# Altium integrated library NSC Interface.IntLib: 481 symbols (part 5 of 16)
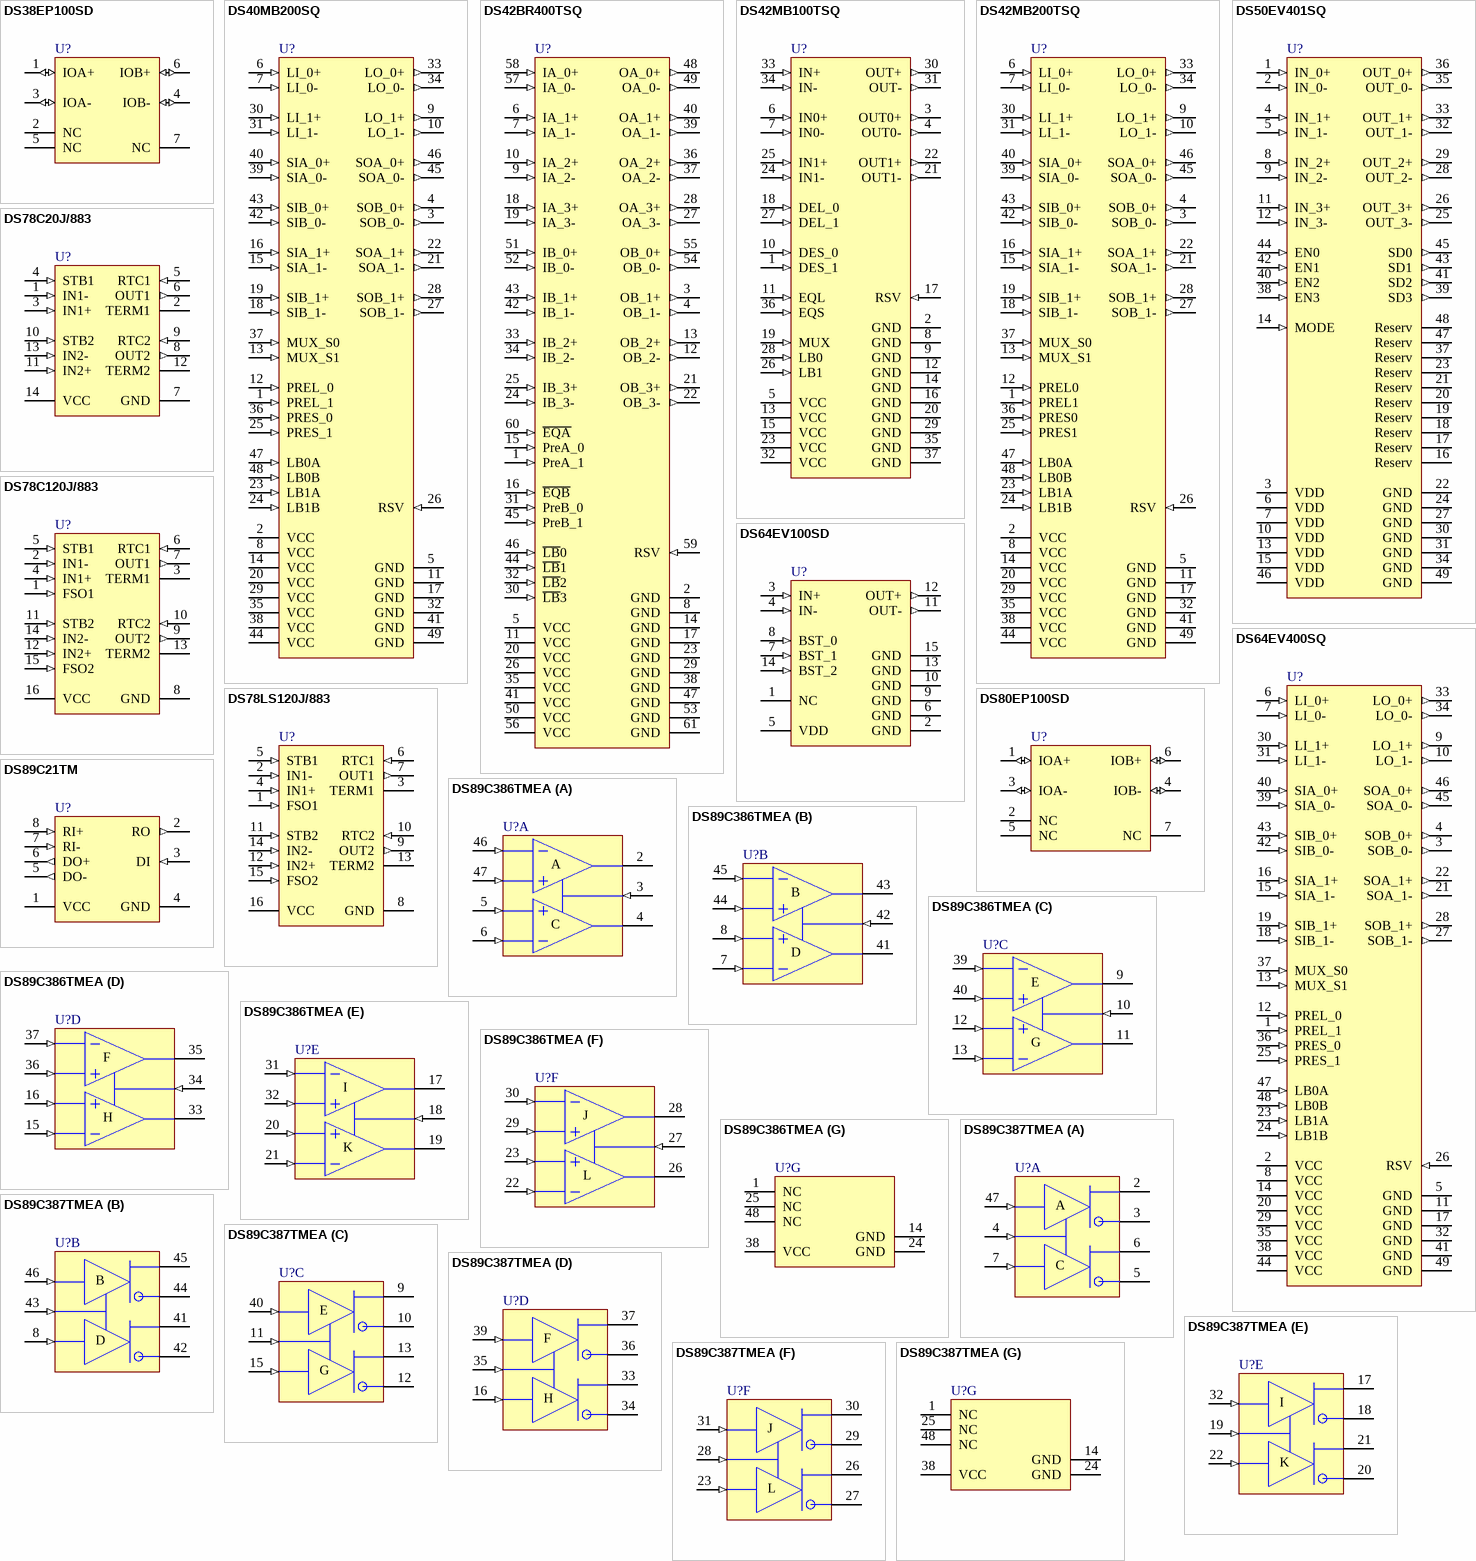
[diagram p44: symbols DS38EP100SD to DS89C387TMEA]

## DS89C21TM
designator U?
Differential CMOS Line Driver and Receiver Pair; PartNumber: DS89C21TM; Manufacturer: National Semiconductor; CompType: Interface IC; PackageTopMarking: NSZXTT*DS89C*21TM; Published: 4-Dec-2008; DatasheetVersion: Jun-1998; PackageVersion: revL, Sep-2006; PackageReference: M08A; Publisher: Altium Limited; PackageDescription: SOIC Narrow, 4.9 x 3.9 x 1.45mm, 8 Lead, 1.27mm Pitch; RoHS: O; PinCount: 8; DigiKeyPartNumber: DS89C21TM-ND; Code_JEDEC: MS-012-AA; Code_IPC: SOIC127P600-8; ComponentLink1Description: DS89C21 Datasheet; ComponentLink1URL: http://www.national.com/ds/DS/DS89C21.pdf; ComponentLink2Description: DS89C21 Web Page; ComponentLink2URL: http://www.national.com/pf/DS/DS89C21.html; ComponentLink3Description: M08A Package Page; ComponentLink3URL: http://www.national.com/packaging/folders/m08a.html
footprint M08A_N (SOIC, 8-Leads, Body 4.9x3.9mm, Pitch 1.27mm, IPC Medium Density)
footprint M08A_L (SOIC, 8-Leads, Body 4.9x3.9mm, Pitch 1.27mm, IPC High Density)
footprint M08A_M (SOIC, 8-Leads, Body 4.9x3.9mm, Pitch 1.27mm, IPC Low Density)
pins: 1 VCC (power), 2 RO (out), 3 DI (in), 4 GND (power), 5 DO- (out), 6 DO+ (out), 7 RI- (in), 8 RI+ (in)

## DS89C386TMEA
designator U?
Twelve Channel CMOS Differential Line Receiver; PartNumber: DS89C386TMEA; Manufacturer: National Semiconductor; CompType: Interface IC; PackageTopMarking: NSUZXYTT*DS89C386T*MEA; Published: 4-Dec-2008; DatasheetVersion: Oct-2001; PackageVersion: revF, Sep-2005; PackageReference: MS48A; Publisher: Altium Limited; PackageDescription: SSOP, .295 x .625 x .09in Body, 48 Lead, .025in Pitch; RoHS: O; PinCount: 48; DigiKeyPartNumber: DS89C386TMEA-ND; Code_IPC: SOP635P1035-48; ComponentLink1Description: DS89C386 Datasheet; ComponentLink1URL: http://www.national.com/ds/DS/DS89C386.pdf; ComponentLink2Description: DS89C386 Web Page; ComponentLink2URL: http://www.national.com/pf/DS/DS89C386.html; ComponentLink3Description: MS48A Package Page; ComponentLink3URL: http://www.national.com/packaging/folders/ms48a.html
footprint MS48A_N (SOP, 48-Leads, Body 15.9x7.5mm, Pitch 0.635mm, IPC Medium Density)
footprint MS48A_L (SOP, 48-Leads, Body 15.9x7.5mm, Pitch 0.635mm, IPC High Density)
footprint MS48A_M (SOP, 48-Leads, Body 15.9x7.5mm, Pitch 0.635mm, IPC Low Density)
part A pins: 2 RO (hiz), 3 EN (in), 4 RO (hiz), 5 RI+ (in), 6 RI- (in), 46 RI- (in), 47 RI+ (in)
part B pins: 7 RI- (in), 8 RI+ (in), 41 RO (hiz), 42 EN (in), 43 RO (hiz), 44 RI+ (in), 45 RI- (in)
part C pins: 9 RO (hiz), 10 EN (in), 11 RO (hiz), 12 RI+ (in), 13 RI- (in), 39 RI- (in), 40 RI+ (in)
part D pins: 15 RI- (in), 16 RI+ (in), 33 RO (hiz), 34 EN (in), 35 RO (hiz), 36 RI+ (in), 37 RI- (in)
part E pins: 17 RO (hiz), 18 EN (in), 19 RO (hiz), 20 RI+ (in), 21 RI- (in), 31 RI- (in), 32 RI+ (in)
part F pins: 22 RI- (in), 23 RI+ (in), 26 RO (hiz), 27 EN (in), 28 RO (hiz), 29 RI+ (in), 30 RI- (in)
part G pins: 1 NC, 14 GND (power), 24 GND (power), 25 NC, 38 VCC (power), 48 NC
part A text: A; C
part B text: B; D
part C text: E; G
part D text: F; H
part E text: I; K
part F text: J; L

## DS89C387TMEA
designator U?
Twelve Channel CMOS Differential Line Driver; PartNumber: DS89C387TMEA; Manufacturer: National Semiconductor; CompType: Interface IC; PackageTopMarking: NSUZXYTT*DS89C387T*MEA; Published: 4-Dec-2008; DatasheetVersion: Dec-2006; PackageVersion: revF, Sep-2005; PackageReference: MS48A; Publisher: Altium Limited; PackageDescription: SSOP, .295 x .625 x .09in Body, 48 Lead, .025in Pitch; RoHS: O; PinCount: 48; DigiKeyPartNumber: DS89C387TMEA-ND; Code_IPC: SOP635P1035-48; ComponentLink1Description: DS89C387 Datasheet; ComponentLink1URL: http://www.national.com/ds/DS/DS89C387.pdf; ComponentLink2Description: DS89C387 Web Page; ComponentLink2URL: http://www.national.com/pf/DS/DS89C387.html; ComponentLink3Description: MS48A Package Page; ComponentLink3URL: http://www.national.com/packaging/folders/ms48a.html
footprint MS48A_N (SOP, 48-Leads, Body 15.9x7.5mm, Pitch 0.635mm, IPC Medium Density)
footprint MS48A_L (SOP, 48-Leads, Body 15.9x7.5mm, Pitch 0.635mm, IPC High Density)
footprint MS48A_M (SOP, 48-Leads, Body 15.9x7.5mm, Pitch 0.635mm, IPC Low Density)
part A pins: 2 DO (hiz), 3 ~{DO} (hiz), 4 EN (in), 5 ~{DO} (hiz), 6 DO (hiz), 7 DI (in), 47 DI (in)
part B pins: 8 DI (in), 41 DO (hiz), 42 ~{DO} (hiz), 43 EN (in), 44 ~{DO} (hiz), 45 DO (hiz), 46 DI (in)
part C pins: 9 DO (hiz), 10 ~{DO} (hiz), 11 EN (in), 12 ~{DO} (hiz), 13 DO (hiz), 15 DI (in), 40 DI (in)
part D pins: 16 DI (in), 33 DO (hiz), 34 ~{DO} (hiz), 35 EN (in), 36 ~{DO} (hiz), 37 DO (hiz), 39 DI (in)
part E pins: 17 DO (hiz), 18 ~{DO} (hiz), 19 EN (in), 20 ~{DO} (hiz), 21 DO (hiz), 22 DI (in), 32 DI (in)
part F pins: 23 DI (in), 26 DO (hiz), 27 ~{DO} (hiz), 28 EN (in), 29 ~{DO} (hiz), 30 DO (hiz), 31 DI (in)
part G pins: 1 NC, 14 GND (power), 24 GND (power), 25 NC, 38 VCC (power), 48 NC
part A text: A; C
part B text: B; D
part C text: E; G
part D text: F; H
part E text: I; K
part F text: J; L

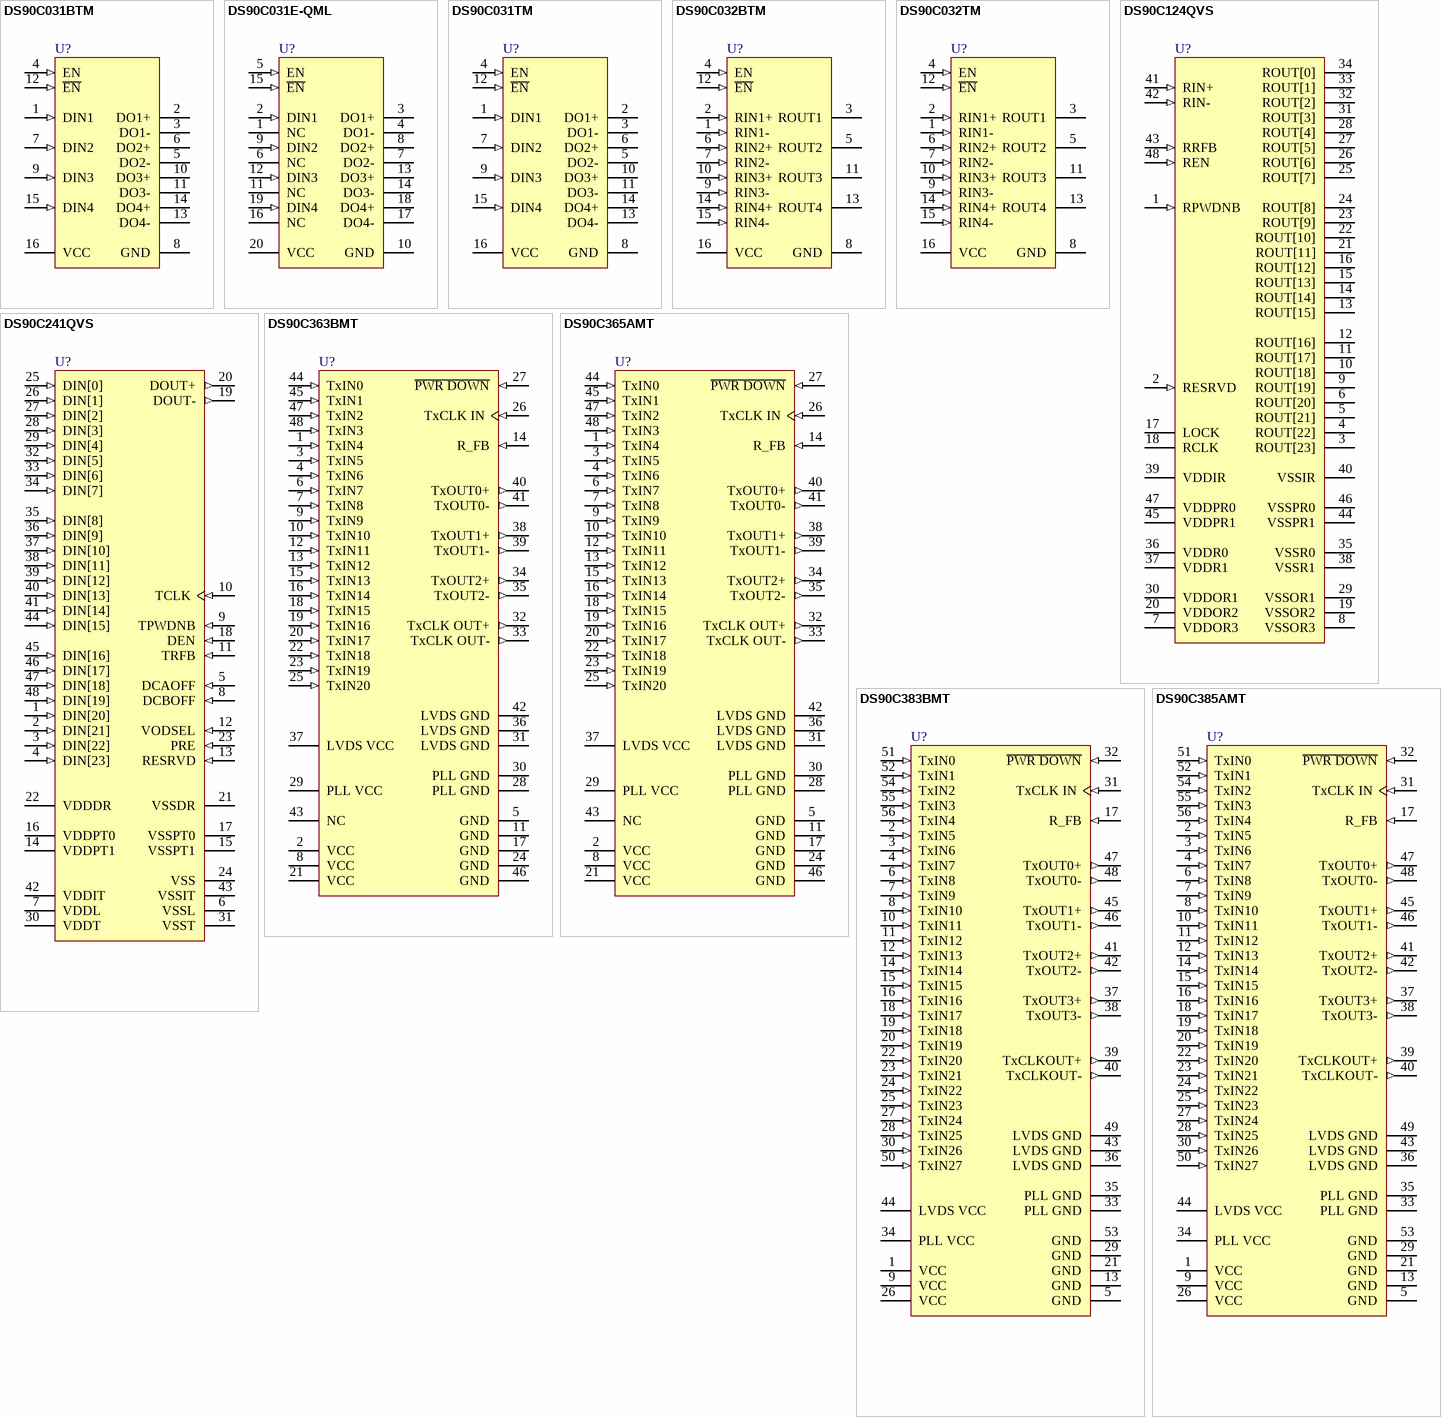
[diagram p11: symbols DS90C031BTM to DS90C385AMT]

## DS90C031BTM
designator U?
LVDS Quad CMOS Differential Line Driver; PartNumber: DS90C031BTM; Manufacturer: National Semiconductor; CompType: Interface IC; PackageTopMarking: NSUZXYTT*DS90C031BTM; Published: 4-Dec-2008; DatasheetVersion: Oct-2001; PackageVersion: revJ, Aug-1995; PackageReference: M16A; Publisher: Altium Limited; PackageDescription: Molded Package, S.O., .150in Wide, 16 Lead; RoHS: O; PinCount: 16; DigiKeyPartNumber: DS90C031BTM-ND; Code_JEDEC: MS-012-AC; Code_IPC: SOIC127P600-16; ComponentLink1Description: DS90C031B Datasheet; ComponentLink1URL: http://www.national.com/ds/DS/DS90C031B.pdf; ComponentLink2Description: DS90C031B Web Page; ComponentLink2URL: http://www.national.com/pf/DS/DS90C031B.html; ComponentLink3Description: M16A Package Page; ComponentLink3URL: http://www.national.com/packaging/folders/m16a.html
footprint M16A_N (SOIC, 16-Leads, Body 9.9x3.9mm, Pitch 1.27mm, IPC Medium Density)
footprint M16A_L (SOIC, 16-Leads, Body 9.9x3.9mm, Pitch 1.27mm, IPC High Density)
footprint M16A_M (SOIC, 16-Leads, Body 9.9x3.9mm, Pitch 1.27mm, IPC Low Density)
pins: 1 DIN1 (in), 2 DO1+ (hiz), 3 DO1- (hiz), 4 EN (in), 5 DO2- (hiz), 6 DO2+ (hiz), 7 DIN2 (in), 8 GND (power), 9 DIN3 (in), 10 DO3+ (hiz), 11 DO3- (hiz), 12 ~{EN} (in), 13 DO4- (hiz), 14 DO4+ (hiz), 15 DIN4 (in), 16 VCC (power)

## DS90C031E-QML
designator U?
LVDS Quad CMOS Differential Line Driver; PartNumber: DS90C031E-QML; Manufacturer: National Semiconductor; CompType: Interface IC; PackageTopMarking: NSZSSXXYYA*5962-95833*01Q2A*DS90C031E*-QML Q; Published: 4-Dec-2008; DatasheetVersion: Jun-1998; PackageVersion: revF, May-2004; PackageReference: E20A; Publisher: Altium Limited; PackageDescription: Leadless Chip Carrier, Type C, 20 Terminal; RoHS: N; PinCount: 20; Code_JEDEC: MS-004-CB; ComponentLink1Description: DS90C031 Datasheet; ComponentLink1URL: http://www.national.com/ds/DS/DS90C031.pdf; ComponentLink2Description: DS90C031 Web Page; ComponentLink2URL: http://www.national.com/pf/DS/DS90C031.html; ComponentLink3Description: E20A Package Page; ComponentLink3URL: http://www.national.com/packaging/folders/e20a.html
footprint E20A_N (Leadless Chip Carrier, 20-Leads, Body 8.9x8.9mm, Pitch 1.27mm, IPC Medium Density)
footprint E20A_L (Leadless Chip Carrier, 20-Leads, Body 8.9x8.9mm, Pitch 1.27mm, IPC High Density)
footprint E20A_M (Leadless Chip Carrier, 20-Leads, Body 8.9x8.9mm, Pitch 1.27mm, IPC Low Density)
pins: 1 NC, 2 DIN1 (in), 3 DO1+ (hiz), 4 DO1- (hiz), 5 EN (in), 6 NC, 7 DO2- (hiz), 8 DO2+ (hiz), 9 DIN2 (in), 10 GND (power), 11 NC, 12 DIN3 (in), 13 DO3+ (hiz), 14 DO3- (hiz), 15 ~{EN} (in), 16 NC, 17 DO4- (hiz), 18 DO4+ (hiz), 19 DIN4 (in), 20 VCC (power)

## DS90C031TM
designator U?
LVDS Quad CMOS Differential Line Driver; PartNumber: DS90C031TM; Manufacturer: National Semiconductor; CompType: Interface IC; PackageTopMarking: NSUZXYTT*DS90C031TM; Published: 4-Dec-2008; DatasheetVersion: Jun-1998; PackageVersion: revJ, Aug-1995; PackageReference: M16A; Publisher: Altium Limited; PackageDescription: Molded Package, S.O., .150in Wide, 16 Lead; RoHS: O; PinCount: 16; DigiKeyPartNumber: DS90C031TM-ND; Code_JEDEC: MS-012-AC; Code_IPC: SOIC127P600-16; ComponentLink1Description: DS90C031 Datasheet; ComponentLink1URL: http://www.national.com/ds/DS/DS90C031.pdf; ComponentLink2Description: DS90C031 Web Page; ComponentLink2URL: http://www.national.com/pf/DS/DS90C031.html; ComponentLink3Description: M16A Package Page; ComponentLink3URL: http://www.national.com/packaging/folders/m16a.html
footprint M16A_N (SOIC, 16-Leads, Body 9.9x3.9mm, Pitch 1.27mm, IPC Medium Density)
footprint M16A_L (SOIC, 16-Leads, Body 9.9x3.9mm, Pitch 1.27mm, IPC High Density)
footprint M16A_M (SOIC, 16-Leads, Body 9.9x3.9mm, Pitch 1.27mm, IPC Low Density)
pins: 1 DIN1 (in), 2 DO1+ (hiz), 3 DO1- (hiz), 4 EN (in), 5 DO2- (hiz), 6 DO2+ (hiz), 7 DIN2 (in), 8 GND (power), 9 DIN3 (in), 10 DO3+ (hiz), 11 DO3- (hiz), 12 ~{EN} (in), 13 DO4- (hiz), 14 DO4+ (hiz), 15 DIN4 (in), 16 VCC (power)

## DS90C032BTM
designator U?
LVDS Quad CMOS Differential Line Receiver; PartNumber: DS90C032BTM; Manufacturer: National Semiconductor; CompType: Interface IC; PackageTopMarking: NSUZXYTT*DS90C032BTM; Published: 4-Dec-2008; DatasheetVersion: Sep-2003; PackageVersion: revJ, Aug-1995; PackageReference: M16A; Publisher: Altium Limited; PackageDescription: Molded Package, S.O., .150in Wide, 16 Lead; RoHS: O; PinCount: 16; DigiKeyPartNumber: DS90C032BTM-ND; Code_JEDEC: MS-012-AC; Code_IPC: SOIC127P600-16; ComponentLink1Description: DS90C032B Datasheet; ComponentLink1URL: http://www.national.com/ds/DS/DS90C032B.pdf; ComponentLink2Description: DS90C032B Web Page; ComponentLink2URL: http://www.national.com/pf/DS/DS90C032B.html; ComponentLink3Description: M16A Package Page; ComponentLink3URL: http://www.national.com/packaging/folders/m16a.html
footprint M16A_N (SOIC, 16-Leads, Body 9.9x3.9mm, Pitch 1.27mm, IPC Medium Density)
footprint M16A_L (SOIC, 16-Leads, Body 9.9x3.9mm, Pitch 1.27mm, IPC High Density)
footprint M16A_M (SOIC, 16-Leads, Body 9.9x3.9mm, Pitch 1.27mm, IPC Low Density)
pins: 1 RIN1- (in), 2 RIN1+ (in), 3 ROUT1 (hiz), 4 EN (in), 5 ROUT2 (hiz), 6 RIN2+ (in), 7 RIN2- (in), 8 GND (power), 9 RIN3- (in), 10 RIN3+ (in), 11 ROUT3 (hiz), 12 ~{EN} (in), 13 ROUT4 (hiz), 14 RIN4+ (in), 15 RIN4- (in), 16 VCC (power)

## DS90C032TM
designator U?
LVDS Quad CMOS Differential Line Receiver; PartNumber: DS90C032TM; Manufacturer: National Semiconductor; CompType: Interface IC; PackageTopMarking: NSUZXYTT*DS90C032TM; Published: 4-Dec-2008; DatasheetVersion: May-2007; PackageVersion: revJ, Aug-1995; PackageReference: M16A; Publisher: Altium Limited; PackageDescription: Molded Package, S.O., .150in Wide, 16 Lead; RoHS: O; PinCount: 16; DigiKeyPartNumber: DS90C032TM-ND; Code_JEDEC: MS-012-AC; Code_IPC: SOIC127P600-16; ComponentLink1Description: DS90C032 Datasheet; ComponentLink1URL: http://www.national.com/ds/DS/DS90C032.pdf; ComponentLink2Description: DS90C032 Web Page; ComponentLink2URL: http://www.national.com/pf/DS/DS90C032.html; ComponentLink3Description: M16A Package Page; ComponentLink3URL: http://www.national.com/packaging/folders/m16a.html
footprint M16A_N (SOIC, 16-Leads, Body 9.9x3.9mm, Pitch 1.27mm, IPC Medium Density)
footprint M16A_L (SOIC, 16-Leads, Body 9.9x3.9mm, Pitch 1.27mm, IPC High Density)
footprint M16A_M (SOIC, 16-Leads, Body 9.9x3.9mm, Pitch 1.27mm, IPC Low Density)
pins: 1 RIN1- (in), 2 RIN1+ (in), 3 ROUT1 (hiz), 4 EN (in), 5 ROUT2 (hiz), 6 RIN2+ (in), 7 RIN2- (in), 8 GND (power), 9 RIN3- (in), 10 RIN3+ (in), 11 ROUT3 (hiz), 12 ~{EN} (in), 13 ROUT4 (hiz), 14 RIN4+ (in), 15 RIN4- (in), 16 VCC (power)

## DS90C124QVS
designator U?
5-35MHz DC- Balanced 24-Bit LVDS Deserializer; PartNumber: DS90C124QVS; Manufacturer: National Semiconductor; CompType: Interface IC; PackageTopMarking: NSUZXYTT*DS90C124*QVS; Published: 4-Dec-2008; DatasheetVersion: Jan-2008; PackageVersion: revA, Apr-2000; PackageReference: VBC48A; Publisher: Altium Limited; PackageDescription: TQFP, Jedec Metric, 7 x 7 x 1mm, 48 Lead, 0.5mm Pitch; RoHS: Y; PinCount: 48; Code_JEDEC: MS-026-ABC; ComponentLink1Description: DS90C124 Datasheet; ComponentLink1URL: http://www.national.com/ds/DS/DS90C124.pdf; ComponentLink2Description: DS90C124 Web Page; ComponentLink2URL: http://www.national.com/pf/DS/DS90C124.html; ComponentLink3Description: VBC48A Package Page; ComponentLink3URL: http://www.national.com/packaging/folders/vbc48a.html
footprint VBC48A_N (Thin QFP, 48-Leads, Body 7x7mm, Pitch 0.5mm, IPC Medium Density)
footprint VBC48A_L (Thin QFP, 48-Leads, Body 7x7mm, Pitch 0.5mm, IPC High Density)
footprint VBC48A_M (Thin QFP, 48-Leads, Body 7x7mm, Pitch 0.5mm, IPC Low Density)
pins: 1 RPWDNB (in), 2 RESRVD (in), 3 ROUT[23] (hiz), 4 ROUT[22] (hiz), 5 ROUT[21] (hiz), 6 ROUT[20] (hiz), 7 VDDOR3 (power), 8 VSSOR3 (power), 9 ROUT[19] (hiz), 10 ROUT[18] (hiz), 11 ROUT[17] (hiz), 12 ROUT[16] (hiz), 13 ROUT[15] (hiz), 14 ROUT[14] (hiz), 15 ROUT[13] (hiz), 16 ROUT[12] (hiz), 17 LOCK (hiz), 18 RCLK (hiz), 19 VSSOR2 (power), 20 VDDOR2 (power), 21 ROUT[11] (hiz), 22 ROUT[10] (hiz), 23 ROUT[9] (hiz), 24 ROUT[8] (hiz), 25 ROUT[7] (hiz), 26 ROUT[6] (hiz), 27 ROUT[5] (hiz), 28 ROUT[4] (hiz), 29 VSSOR1 (power), 30 VDDOR1 (power), 31 ROUT[3] (hiz), 32 ROUT[2] (hiz), 33 ROUT[1] (hiz), 34 ROUT[0] (hiz), 35 VSSR0 (power), 36 VDDR0 (power), 37 VDDR1 (power), 38 VSSR1 (power), 39 VDDIR (power), 40 VSSIR (power), 41 RIN+ (in), 42 RIN- (in), 43 RRFB (in), 44 VSSPR1 (power), 45 VDDPR1 (power), 46 VSSPR0 (power), 47 VDDPR0 (power), 48 REN (in)

## DS90C241QVS
designator U?
5-35MHz DC- Balanced 24-Bit LVDS Serializer; PartNumber: DS90C241QVS; Manufacturer: National Semiconductor; CompType: Interface IC; PackageTopMarking: NSUZXYTT*DS90C241*QVS; Published: 4-Dec-2008; DatasheetVersion: Jan-2008; PackageVersion: revA, Apr-2000; PackageReference: VBC48A; Publisher: Altium Limited; PackageDescription: TQFP, Jedec Metric, 7 x 7 x 1mm, 48 Lead, 0.5mm Pitch; RoHS: Y; PinCount: 48; Code_JEDEC: MS-026-ABC; ComponentLink1Description: DS90C241 Datasheet; ComponentLink1URL: http://www.national.com/ds/DS/DS90C241.pdf; ComponentLink2Description: DS90C241 Web Page; ComponentLink2URL: http://www.national.com/pf/DS/DS90C241.html; ComponentLink3Description: VBC48A Package Page; ComponentLink3URL: http://www.national.com/packaging/folders/vbc48a.html
footprint VBC48A_N (Thin QFP, 48-Leads, Body 7x7mm, Pitch 0.5mm, IPC Medium Density)
footprint VBC48A_L (Thin QFP, 48-Leads, Body 7x7mm, Pitch 0.5mm, IPC High Density)
footprint VBC48A_M (Thin QFP, 48-Leads, Body 7x7mm, Pitch 0.5mm, IPC Low Density)
pins: 1 DIN[20] (in), 2 DIN[21] (in), 3 DIN[22] (in), 4 DIN[23] (in), 5 DCAOFF (in), 6 VSSL (power), 7 VDDL (power), 8 DCBOFF (in), 9 TPWDNB (in), 10 TCLK (in), 11 TRFB (in), 12 VODSEL (in), 13 RESRVD (in), 14 VDDPT1 (power), 15 VSSPT1 (power), 16 VDDPT0 (power), 17 VSSPT0 (power), 18 DEN (in), 19 DOUT- (out), 20 DOUT+ (out), 21 VSSDR (power), 22 VDDDR (power), 23 PRE (in), 24 VSS (power), 25 DIN[0] (in), 26 DIN[1] (in), 27 DIN[2] (in), 28 DIN[3] (in), 29 DIN[4] (in), 30 VDDT (power), 31 VSST (power), 32 DIN[5] (in), 33 DIN[6] (in), 34 DIN[7] (in), 35 DIN[8] (in), 36 DIN[9] (in), 37 DIN[10] (in), 38 DIN[11] (in), 39 DIN[12] (in), 40 DIN[13] (in), 41 DIN[14] (in), 42 VDDIT (power), 43 VSSIT (power), 44 DIN[15] (in), 45 DIN[16] (in), 46 DIN[17] (in), 47 DIN[18] (in), 48 DIN[19] (in)

## DS90C363BMT
designator U?
+3.3V Programmable LVDS Transmitter 18-Bit Flat Panel Display (FPD) Link - 65MHz; PartNumber: DS90C363BMT; Manufacturer: National Semiconductor; CompType: Interface IC; PackageTopMarking: NSUZXYTT*DS90C363BMT; Published: 4-Dec-2008; DatasheetVersion: Oct-2006; PackageVersion: revE, Apr-2003; PackageReference: MTD48; Publisher: Altium Limited; PackageDescription: Molded TSSOP, Jedec, 12.5 x 6.1 x 0.9mm Body, 48 Lead, 0.50mm Pitch; RoHS: O; PinCount: 48; Code_JEDEC: MO-153-ED; ComponentLink1Description: DS90C363B Datasheet; ComponentLink1URL: http://www.national.com/ds/DS/DS90C363B.pdf; ComponentLink2Description: DS90C363B Web Page; ComponentLink2URL: http://www.national.com/pf/DS/DS90C363B.html; ComponentLink3Description: MTD48 Package Page; ComponentLink3URL: http://www.national.com/packaging/folders/mtd48.html
footprint MTD48_N (TSSOP, 48-Leads, Body 12.5x6.1mm, Pitch 0.5mm, IPC Medium Density)
footprint MTD48_L (TSSOP, 48-Leads, Body 12.5x6.1mm, Pitch 0.5mm, IPC High Density)
footprint MTD48_M (TSSOP, 48-Leads, Body 12.5x6.1mm, Pitch 0.5mm, IPC Low Density)
pins: 1 TxIN4 (in), 2 VCC (power), 3 TxIN5 (in), 4 TxIN6 (in), 5 GND (power), 6 TxIN7 (in), 7 TxIN8 (in), 8 VCC (power), 9 TxIN9 (in), 10 TxIN10 (in), 11 GND (power), 12 TxIN11 (in), 13 TxIN12 (in), 14 R_FB (in), 15 TxIN13 (in), 16 TxIN14 (in), 17 GND (power), 18 TxIN15 (in), 19 TxIN16 (in), 20 TxIN17 (in), 21 VCC (power), 22 TxIN18 (in), 23 TxIN19 (in), 24 GND (power), 25 TxIN20 (in), 26 TxCLK IN (in), 27 ~{PWR DOWN} (in), 28 PLL GND (power), 29 PLL VCC (power), 30 PLL GND (power), 31 LVDS GND (power), 32 TxCLK OUT+ (out), 33 TxCLK OUT- (out), 34 TxOUT2+ (out), 35 TxOUT2- (out), 36 LVDS GND (power), 37 LVDS VCC (power), 38 TxOUT1+ (out), 39 TxOUT1- (out), 40 TxOUT0+ (out), 41 TxOUT0- (out), 42 LVDS GND (power), 43 NC, 44 TxIN0 (in), 45 TxIN1 (in), 46 GND (power), 47 TxIN2 (in), 48 TxIN3 (in)

## DS90C365AMT
designator U?
LVDS Transmitter Flat Panel Display 85MHz; PartNumber: DS90C365AMT; Manufacturer: National Semiconductor; CompType: Interface IC; PackageTopMarking: NSUZXYTT*DS90C365AMT; Published: 4-Dec-2008; DatasheetVersion: Oct-2005; PackageVersion: revE, Apr-2003; PackageReference: MTD48; Publisher: Altium Limited; PackageDescription: Molded TSSOP, Jedec, 12.5 x 6.1 x 0.9mm Body, 48 Lead, 0.50mm Pitch; RoHS: O; PinCount: 48; DigiKeyPartNumber: DS90C365AMT-ND; Code_JEDEC: MO-153-ED; ComponentLink1Description: DS90C365A Datasheet; ComponentLink1URL: http://www.national.com/ds/DS/DS90C365A.pdf; ComponentLink2Description: DS90C365A Web Page; ComponentLink2URL: http://www.national.com/pf/DS/DS90C365A.html; ComponentLink3Description: MTD48 Package Page; ComponentLink3URL: http://www.national.com/packaging/folders/mtd48.html
footprint MTD48_N (TSSOP, 48-Leads, Body 12.5x6.1mm, Pitch 0.5mm, IPC Medium Density)
footprint MTD48_L (TSSOP, 48-Leads, Body 12.5x6.1mm, Pitch 0.5mm, IPC High Density)
footprint MTD48_M (TSSOP, 48-Leads, Body 12.5x6.1mm, Pitch 0.5mm, IPC Low Density)
pins: 1 TxIN4 (in), 2 VCC (power), 3 TxIN5 (in), 4 TxIN6 (in), 5 GND (power), 6 TxIN7 (in), 7 TxIN8 (in), 8 VCC (power), 9 TxIN9 (in), 10 TxIN10 (in), 11 GND (power), 12 TxIN11 (in), 13 TxIN12 (in), 14 R_FB (in), 15 TxIN13 (in), 16 TxIN14 (in), 17 GND (power), 18 TxIN15 (in), 19 TxIN16 (in), 20 TxIN17 (in), 21 VCC (power), 22 TxIN18 (in), 23 TxIN19 (in), 24 GND (power), 25 TxIN20 (in), 26 TxCLK IN (in), 27 ~{PWR DOWN} (in), 28 PLL GND (power), 29 PLL VCC (power), 30 PLL GND (power), 31 LVDS GND (power), 32 TxCLK OUT+ (out), 33 TxCLK OUT- (out), 34 TxOUT2+ (out), 35 TxOUT2- (out), 36 LVDS GND (power), 37 LVDS VCC (power), 38 TxOUT1+ (out), 39 TxOUT1- (out), 40 TxOUT0+ (out), 41 TxOUT0- (out), 42 LVDS GND (power), 43 NC, 44 TxIN0 (in), 45 TxIN1 (in), 46 GND (power), 47 TxIN2 (in), 48 TxIN3 (in)

## DS90C383BMT
designator U?
+3.3V Programmable LVDS Transmitter 24-Bit Flat Panel Display (FPD) Link  -65 MHz; PartNumber: DS90C383BMT; Manufacturer: National Semiconductor; CompType: Interface IC; PackageTopMarking: NSUZXYTT*DS90C383BMT; Published: 4-Dec-2008; DatasheetVersion: Oct-2006; PackageVersion: revD, Apr-2003; PackageReference: MTD56; Publisher: Altium Limited; PackageDescription: Molded TSSOP, Jedec, 14 x 6.1 x 0.9mm Body, 56 Lead, 0.50mm Pitch; RoHS: Y; PinCount: 56; Code_IPC: TSSOP50P810-56; ComponentLink1Description: DS90C383B Datasheet; ComponentLink1URL: http://www.national.com/ds/DS/DS90C383B.pdf; ComponentLink2Description: DS90C383B Web Page; ComponentLink2URL: http://www.national.com/pf/DS/DS90C383B.html; ComponentLink3Description: MTD56 Package Page; ComponentLink3URL: http://www.national.com/packaging/folders/mtd56.html
footprint MTD56_N (TSSOP, 56-Leads, Body 14x6.1mm, Pitch 0.5mm, IPC Medium Density)
footprint MTD56_L (TSSOP, 56-Leads, Body 14x6.1mm, Pitch 0.5mm, IPC High Density)
footprint MTD56_M (TSSOP, 56-Leads, Body 14x6.1mm, Pitch 0.5mm, IPC Low Density)
pins: 1 VCC (power), 2 TxIN5 (in), 3 TxIN6 (in), 4 TxIN7 (in), 5 GND (power), 6 TxIN8 (in), 7 TxIN9 (in), 8 TxIN10 (in), 9 VCC (power), 10 TxIN11 (in), 11 TxIN12 (in), 12 TxIN13 (in), 13 GND (power), 14 TxIN14 (in), 15 TxIN15 (in), 16 TxIN16 (in), 17 R_FB (in), 18 TxIN17 (in), 19 TxIN18 (in), 20 TxIN19 (in), 21 GND (power), 22 TxIN20 (in), 23 TxIN21 (in), 24 TxIN22 (in), 25 TxIN23 (in), 26 VCC (power), 27 TxIN24 (in), 28 TxIN25 (in), 29 GND (power), 30 TxIN26 (in), 31 TxCLK IN (in), 32 ~{PWR DOWN} (in), 33 PLL GND (power), 34 PLL VCC (power), 35 PLL GND (power), 36 LVDS GND (power), 37 TxOUT3+ (out), 38 TxOUT3- (out), 39 TxCLKOUT+ (out), 40 TxCLKOUT- (out), 41 TxOUT2+ (out), 42 TxOUT2- (out), 43 LVDS GND (power), 44 LVDS VCC (power), 45 TxOUT1+ (out), 46 TxOUT1- (out), 47 TxOUT0+ (out), 48 TxOUT0- (out), 49 LVDS GND (power), 50 TxIN27 (in), 51 TxIN0 (in), 52 TxIN1 (in), 53 GND (power), 54 TxIN2 (in), 55 TxIN3 (in), 56 TxIN4 (in)

## DS90C385AMT
designator U?
LVDS Transmitter Flat Panel Display 85MHz; PartNumber: DS90C385AMT; Manufacturer: National Semiconductor; CompType: Interface IC; PackageTopMarking: NSUZXYTT*DS90C385AMT; Published: 4-Dec-2008; DatasheetVersion: Apr-2006; PackageVersion: revD, Apr-2003; PackageReference: MTD56; Publisher: Altium Limited; PackageDescription: Molded TSSOP, Jedec, 14 x 6.1 x 0.9mm Body, 56 Lead, 0.50mm Pitch; RoHS: O; PinCount: 56; DigiKeyPartNumber: DS90C385AMT-ND; Code_IPC: TSSOP50P810-56; ComponentLink1Description: DS90C385A Datasheet; ComponentLink1URL: http://www.national.com/ds/DS/DS90C385A.pdf; ComponentLink2Description: DS90C385A Web Page; ComponentLink2URL: http://www.national.com/pf/DS/DS90C385A.html; ComponentLink3Description: MTD56 Package Page; ComponentLink3URL: http://www.national.com/packaging/folders/mtd56.html
footprint MTD56_N (TSSOP, 56-Leads, Body 14x6.1mm, Pitch 0.5mm, IPC Medium Density)
footprint MTD56_L (TSSOP, 56-Leads, Body 14x6.1mm, Pitch 0.5mm, IPC High Density)
footprint MTD56_M (TSSOP, 56-Leads, Body 14x6.1mm, Pitch 0.5mm, IPC Low Density)
pins: 1 VCC (power), 2 TxIN5 (in), 3 TxIN6 (in), 4 TxIN7 (in), 5 GND (power), 6 TxIN8 (in), 7 TxIN9 (in), 8 TxIN10 (in), 9 VCC (power), 10 TxIN11 (in), 11 TxIN12 (in), 12 TxIN13 (in), 13 GND (power), 14 TxIN14 (in), 15 TxIN15 (in), 16 TxIN16 (in), 17 R_FB (in), 18 TxIN17 (in), 19 TxIN18 (in), 20 TxIN19 (in), 21 GND (power), 22 TxIN20 (in), 23 TxIN21 (in), 24 TxIN22 (in), 25 TxIN23 (in), 26 VCC (power), 27 TxIN24 (in), 28 TxIN25 (in), 29 GND (power), 30 TxIN26 (in), 31 TxCLK IN (in), 32 ~{PWR DOWN} (in), 33 PLL GND (power), 34 PLL VCC (power), 35 PLL GND (power), 36 LVDS GND (power), 37 TxOUT3+ (out), 38 TxOUT3- (out), 39 TxCLKOUT+ (out), 40 TxCLKOUT- (out), 41 TxOUT2+ (out), 42 TxOUT2- (out), 43 LVDS GND (power), 44 LVDS VCC (power), 45 TxOUT1+ (out), 46 TxOUT1- (out), 47 TxOUT0+ (out), 48 TxOUT0- (out), 49 LVDS GND (power), 50 TxIN27 (in), 51 TxIN0 (in), 52 TxIN1 (in), 53 GND (power), 54 TxIN2 (in), 55 TxIN3 (in), 56 TxIN4 (in)

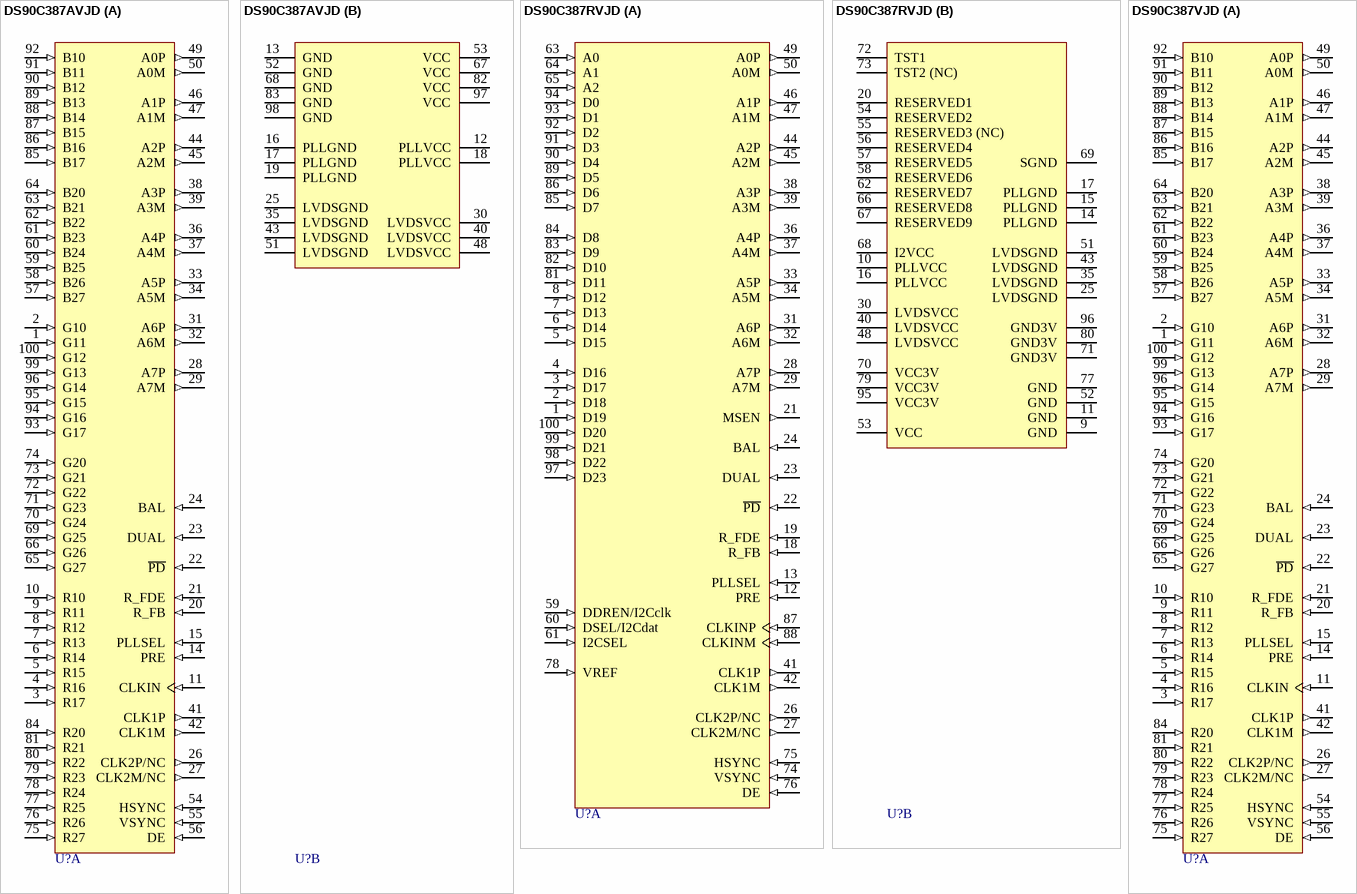
[diagram p12: symbols DS90C387AVJD to DS90C387VJD]

## DS90C387AVJD
designator U?
Dual Pixel LVDS Display Interface / FPD-Link Transmitter; PartNumber: DS90C387AVJD; Manufacturer: National Semiconductor; CompType: Interface IC; PackageTopMarking: NS2ZXYYTT*DS90C387AVJD*BBBBB; Published: 4-Dec-2008; DatasheetVersion: Feb-2006; PackageVersion: revC, May-2004; PackageReference: VJD100A; Publisher: Altium Limited; PackageDescription: TQFP, Jedec, Metric, 14 x 14 x 1.0mm, 100 Lead; RoHS: O; PinCount: 100; DigiKeyPartNumber: DS90C387AVJD-ND; Code_JEDEC: MS-026-AED; ComponentLink1Description: DS90C387A Datasheet; ComponentLink1URL: http://www.national.com/ds/DS/DS90C387A.pdf; ComponentLink2Description: DS90C387A Web Page; ComponentLink2URL: http://www.national.com/pf/DS/DS90C387A.html; ComponentLink3Description: VJD100A Package Page; ComponentLink3URL: http://www.national.com/packaging/folders/vjd100a.html
footprint VJD100A_N (Thin QFP, 100-Leads, Body 14x14mm, Pitch 0.5mm, IPC Medium Density)
footprint VJD100A_L (Thin QFP, 100-Leads, Body 14x14mm, Pitch 0.5mm, IPC High Density)
footprint VJD100A_M (Thin QFP, 100-Leads, Body 14x14mm, Pitch 0.5mm, IPC Low Density)
part A pins: 1 G11 (in), 2 G10 (in), 3 R17 (in), 4 R16 (in), 5 R15 (in), 6 R14 (in), 7 R13 (in), 8 R12 (in), 9 R11 (in), 10 R10 (in), 11 CLKIN (in), 14 PRE (in), 15 PLLSEL (in), 20 R_FB (in), 21 R_FDE (in), 22 ~{PD} (in), 23 DUAL (in), 24 BAL (in), 26 CLK2P/NC (out), 27 CLK2M/NC (out), 28 A7P (out), 29 A7M (out), 31 A6P (out), 32 A6M (out), 33 A5P (out), 34 A5M (out), 36 A4P (out), 37 A4M (out), 38 A3P (out), 39 A3M (out), 41 CLK1P (out), 42 CLK1M (out), 44 A2P (out), 45 A2M (out), 46 A1P (out), 47 A1M (out), 49 A0P (out), 50 A0M (out), 54 HSYNC (in), 55 VSYNC (in), 56 DE (in), 57 B27 (in), 58 B26 (in), 59 B25 (in), 60 B24 (in), 61 B23 (in), 62 B22 (in), 63 B21 (in), 64 B20 (in), 65 G27 (in), 66 G26 (in), 69 G25 (in), 70 G24 (in), 71 G23 (in), 72 G22 (in), 73 G21 (in), 74 G20 (in), 75 R27 (in), 76 R26 (in), 77 R25 (in), 78 R24 (in), 79 R23 (in), 80 R22 (in), 81 R21 (in), 84 R20 (in), 85 B17 (in), 86 B16 (in), 87 B15 (in), 88 B14 (in), 89 B13 (in), 90 B12 (in), 91 B11 (in), 92 B10 (in), 93 G17 (in), 94 G16 (in), 95 G15 (in), 96 G14 (in), 99 G13 (in), 100 G12 (in)
part B pins: 12 PLLVCC (power), 13 GND (power), 16 PLLGND (power), 17 PLLGND (power), 18 PLLVCC (power), 19 PLLGND (power), 25 LVDSGND (power), 30 LVDSVCC (power), 35 LVDSGND (power), 40 LVDSVCC (power), 43 LVDSGND (power), 48 LVDSVCC (power), 51 LVDSGND (power), 52 GND (power), 53 VCC (power), 67 VCC (power), 68 GND (power), 82 VCC (power), 83 GND (power), 97 VCC (power), 98 GND (power)

## DS90C387RVJD
designator U?
85MHz Dual 12-Bit Double Pumped Input LDI Transmitter VGA/UXGA; PartNumber: DS90C387RVJD; Manufacturer: National Semiconductor; CompType: Interface IC; PackageTopMarking: NS2ZXYYTT*DS90C387RVJD*BBBBB; Published: 4-Dec-2008; DatasheetVersion: Dec-2003; PackageVersion: revC, May-2004; PackageReference: VJD100A; Publisher: Altium Limited; PackageDescription: TQFP, Jedec, Metric, 14 x 14 x 1.0mm, 100 Lead; RoHS: Y; PinCount: 100; DigiKeyPartNumber: DS90C387RVJD-ND; Code_JEDEC: MS-026-AED; ComponentLink1Description: DS90C387R Datasheet; ComponentLink1URL: http://www.national.com/ds/DS/DS90C387R.pdf; ComponentLink2Description: DS90C387R Web Page; ComponentLink2URL: http://www.national.com/pf/DS/DS90C387R.html; ComponentLink3Description: VJD100A Package Page; ComponentLink3URL: http://www.national.com/packaging/folders/vjd100a.html
footprint VJD100A_N (Thin QFP, 100-Leads, Body 14x14mm, Pitch 0.5mm, IPC Medium Density)
footprint VJD100A_L (Thin QFP, 100-Leads, Body 14x14mm, Pitch 0.5mm, IPC High Density)
footprint VJD100A_M (Thin QFP, 100-Leads, Body 14x14mm, Pitch 0.5mm, IPC Low Density)
part A pins: 1 D19 (in), 2 D18 (in), 3 D17 (in), 4 D16 (in), 5 D15 (in), 6 D14 (in), 7 D13 (in), 8 D12  (in), 12 PRE (in), 13 PLLSEL (in), 18 R_FB (in), 19 R_FDE (in), 21 MSEN (out), 22 ~{PD} (in), 23 DUAL (in), 24 BAL (in), 26 CLK2P/NC (out), 27 CLK2M/NC (out), 28 A7P (out), 29 A7M (out), 31 A6P (out), 32 A6M (out), 33 A5P (out), 34 A5M (out), 36 A4P (out), 37 A4M (out), 38 A3P (out), 39 A3M (out), 41 CLK1P (out), 42 CLK1M (out), 44 A2P (out), 45 A2M (out), 46 A1P (out), 47 A1M (out), 49 A0P (out), 50 A0M (out), 59 DDREN/I2Cclk (in), 60 DSEL/I2Cdat (in), 61 I2CSEL (in), 63 A0 (in), 64 A1 (in), 65 A2 (in), 74 VSYNC (in), 75 HSYNC (in), 76 DE (in), 78 VREF (in), 81 D11 (in), 82 D10 (in), 83 D9 (in), 84 D8 (in), 85 D7 (in), 86 D6 (in), 87 CLKINP (in), 88 CLKINM (in), 89 D5 (in), 90 D4 (in), 91 D3 (in), 92 D2 (in), 93 D1 (in), 94 D0 (in), 97 D23 (in), 98 D22 (in), 99 D21 (in), 100 D20 (in)
part B pins: 9 GND (power), 10 PLLVCC (power), 11 GND (power), 14 PLLGND (power), 15 PLLGND (power), 16 PLLVCC (power), 17 PLLGND (power), 20 RESERVED1, 25 LVDSGND (power), 30 LVDSVCC (power), 35 LVDSGND (power), 40 LVDSVCC (power), 43 LVDSGND (power), 48 LVDSVCC (power), 51 LVDSGND (power), 52 GND (power), 53 VCC (power), 54 RESERVED2, 55 RESERVED3 (NC), 56 RESERVED4, 57 RESERVED5, 58 RESERVED6, 62 RESERVED7, 66 RESERVED8, 67 RESERVED9, 68 I2VCC (power), 69 SGND (power), 70 VCC3V (power), 71 GND3V (power), 72 TST1, 73 TST2 (NC), 77 GND (power), 79 VCC3V (power), 80 GND3V (power), 95 VCC3V (power), 96 GND3V (power)

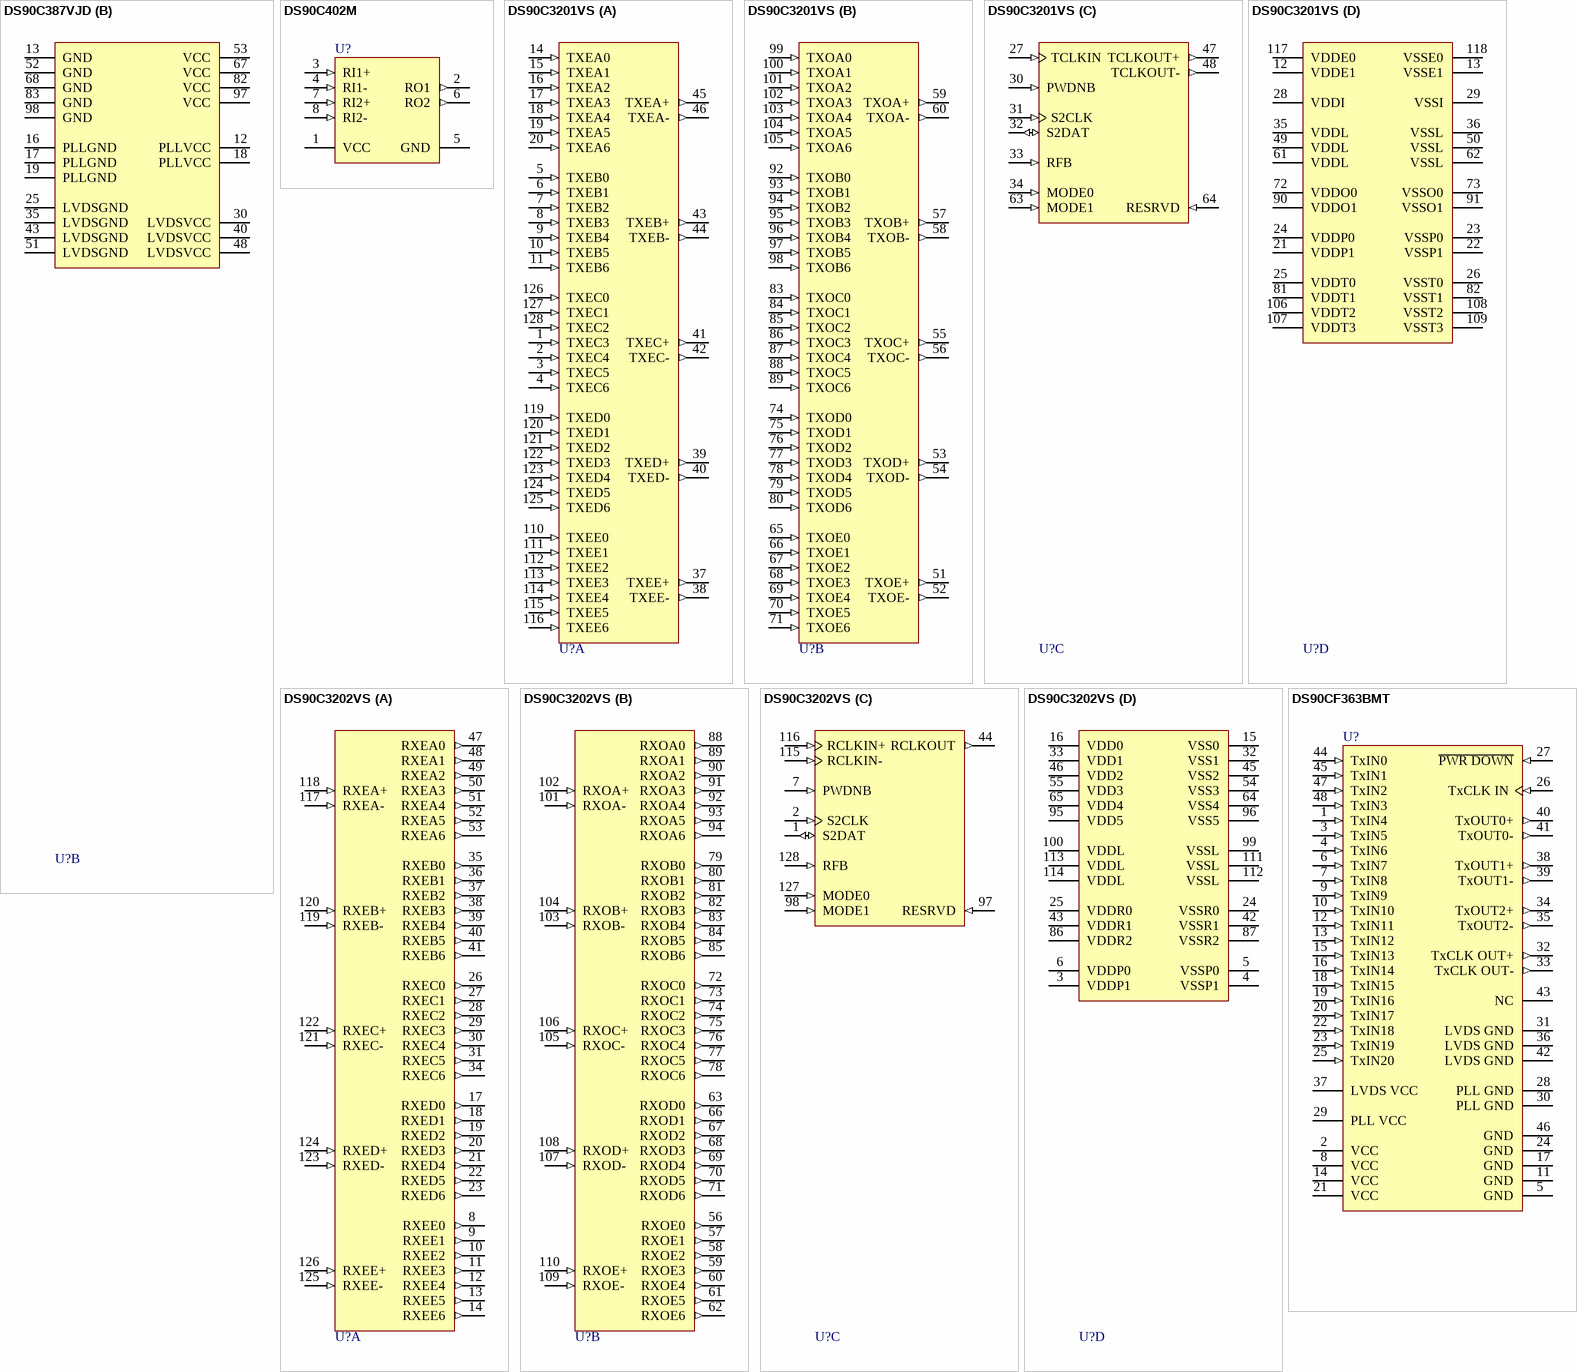
[diagram p13: symbols DS90C387VJD to DS90CF363BMT]

## DS90C387VJD
designator U?
+3.3V Dual Pixel LVDS Display Interface (LDI)-SVGA/QXGA; PartNumber: DS90C387VJD; Manufacturer: National Semiconductor; CompType: Interface IC; PackageTopMarking: NS2ZXYYTT*DS90C387VJD*BBBBB; Published: 4-Dec-2008; DatasheetVersion: Feb-2006; PackageVersion: revC, May-2004; PackageReference: VJD100A; Publisher: Altium Limited; PackageDescription: TQFP, Jedec, Metric, 14 x 14 x 1.0mm, 100 Lead; RoHS: O; PinCount: 100; DigiKeyPartNumber: DS90C387VJD-ND; Code_JEDEC: MS-026-AED; ComponentLink1Description: DS90C387 Datasheet; ComponentLink1URL: http://www.national.com/ds/DS/DS90C387.pdf; ComponentLink2Description: DS90C387 Web Page; ComponentLink2URL: http://www.national.com/pf/DS/DS90C387.html; ComponentLink3Description: VJD100A Package Page; ComponentLink3URL: http://www.national.com/packaging/folders/vjd100a.html
footprint VJD100A_N (Thin QFP, 100-Leads, Body 14x14mm, Pitch 0.5mm, IPC Medium Density)
footprint VJD100A_L (Thin QFP, 100-Leads, Body 14x14mm, Pitch 0.5mm, IPC High Density)
footprint VJD100A_M (Thin QFP, 100-Leads, Body 14x14mm, Pitch 0.5mm, IPC Low Density)
part A pins: 1 G11 (in), 2 G10 (in), 3 R17 (in), 4 R16 (in), 5 R15 (in), 6 R14 (in), 7 R13 (in), 8 R12 (in), 9 R11 (in), 10 R10 (in), 11 CLKIN (in), 14 PRE (in), 15 PLLSEL (in), 20 R_FB (in), 21 R_FDE (in), 22 ~{PD} (in), 23 DUAL (in), 24 BAL (in), 26 CLK2P/NC (out), 27 CLK2M/NC (out), 28 A7P (out), 29 A7M (out), 31 A6P (out), 32 A6M (out), 33 A5P (out), 34 A5M (out), 36 A4P (out), 37 A4M (out), 38 A3P (out), 39 A3M (out), 41 CLK1P (out), 42 CLK1M (out), 44 A2P (out), 45 A2M (out), 46 A1P (out), 47 A1M (out), 49 A0P (out), 50 A0M (out), 54 HSYNC (in), 55 VSYNC (in), 56 DE (in), 57 B27 (in), 58 B26 (in), 59 B25 (in), 60 B24 (in), 61 B23 (in), 62 B22 (in), 63 B21 (in), 64 B20 (in), 65 G27 (in), 66 G26 (in), 69 G25 (in), 70 G24 (in), 71 G23 (in), 72 G22 (in), 73 G21 (in), 74 G20 (in), 75 R27 (in), 76 R26 (in), 77 R25 (in), 78 R24 (in), 79 R23 (in), 80 R22 (in), 81 R21 (in), 84 R20 (in), 85 B17 (in), 86 B16 (in), 87 B15 (in), 88 B14 (in), 89 B13 (in), 90 B12 (in), 91 B11 (in), 92 B10 (in), 93 G17 (in), 94 G16 (in), 95 G15 (in), 96 G14 (in), 99 G13 (in), 100 G12 (in)
part B pins: 12 PLLVCC (power), 13 GND (power), 16 PLLGND (power), 17 PLLGND (power), 18 PLLVCC (power), 19 PLLGND (power), 25 LVDSGND (power), 30 LVDSVCC (power), 35 LVDSGND (power), 40 LVDSVCC (power), 43 LVDSGND (power), 48 LVDSVCC (power), 51 LVDSGND (power), 52 GND (power), 53 VCC (power), 67 VCC (power), 68 GND (power), 82 VCC (power), 83 GND (power), 97 VCC (power), 98 GND (power)

## DS90C402M
designator U?
Dual Low Voltage Differential Signaling (LVDS) Receiver; PartNumber: DS90C402M; Manufacturer: National Semiconductor; CompType: Interface IC; PackageTopMarking: NSZXTT*DS90C*402M; Published: 4-Dec-2008; DatasheetVersion: Aug-2005; PackageVersion: revL, Sep-2006; PackageReference: M08A; Publisher: Altium Limited; PackageDescription: SOIC Narrow, 4.9 x 3.9 x 1.45mm, 8 Lead, 1.27mm Pitch; RoHS: O; PinCount: 8; DigiKeyPartNumber: DS90C402M-ND; Code_JEDEC: MS-012-AA; Code_IPC: SOIC127P600-8; ComponentLink1Description: DS90C402 Datasheet; ComponentLink1URL: http://www.national.com/ds/DS/DS90C402.pdf; ComponentLink2Description: DS90C402 Web Page; ComponentLink2URL: http://www.national.com/pf/DS/DS90C402.html; ComponentLink3Description: M08A Package Page; ComponentLink3URL: http://www.national.com/packaging/folders/m08a.html
footprint M08A_N (SOIC, 8-Leads, Body 4.9x3.9mm, Pitch 1.27mm, IPC Medium Density)
footprint M08A_L (SOIC, 8-Leads, Body 4.9x3.9mm, Pitch 1.27mm, IPC High Density)
footprint M08A_M (SOIC, 8-Leads, Body 4.9x3.9mm, Pitch 1.27mm, IPC Low Density)
pins: 1 VCC (power), 2 RO1 (out), 3 RI1+ (in), 4 RI1- (in), 5 GND (power), 6 RO2 (out), 7 RI2+ (in), 8 RI2- (in)

## DS90C3201VS
designator U?
3.3V 8 MHz to 135 MHz Dual FPD-Link Transmitter; PartNumber: DS90C3201VS; Manufacturer: National Semiconductor; CompType: Interface IC; PackageTopMarking: NSUZXYYTT*DS90C3201VS; Published: 4-Dec-2008; DatasheetVersion: Feb-2006; PackageVersion: revA, Nov-2001; PackageReference: VJX128A; Publisher: Altium Limited; PackageDescription: TQFP, 14 x 14 x 1.0mm, 128 Lead, 0.4mm Pitch; RoHS: Y; PinCount: 128; DigiKeyPartNumber: DS90C3201VS-ND; ComponentLink1Description: DS90C3201 Datasheet; ComponentLink1URL: http://www.national.com/ds/DS/DS90C3201.pdf; ComponentLink2Description: DS90C3201 Web Page; ComponentLink2URL: http://www.national.com/pf/DS/DS90C3201.html; ComponentLink3Description: VJX128A Package Page; ComponentLink3URL: http://www.national.com/packaging/folders/vjx128a.html
footprint VJX128A_N (Thin QFP, 128-Leads, Body 14x14mm, Pitch 0.4mm, IPC Medium Density)
footprint VJX128A_L (Thin QFP, 128-Leads, Body 14x14mm, Pitch 0.4mm, IPC High Density)
footprint VJX128A_M (Thin QFP, 128-Leads, Body 14x14mm, Pitch 0.4mm, IPC Low Density)
part A pins: 1 TXEC3 (in), 2 TXEC4 (in), 3 TXEC5 (in), 4 TXEC6 (in), 5 TXEB0 (in), 6 TXEB1 (in), 7 TXEB2 (in), 8 TXEB3 (in), 9 TXEB4 (in), 10 TXEB5 (in), 11 TXEB6 (in), 14 TXEA0 (in), 15 TXEA1 (in), 16 TXEA2 (in), 17 TXEA3 (in), 18 TXEA4 (in), 19 TXEA5 (in), 20 TXEA6 (in), 37 TXEE+ (out), 38 TXEE- (out), 39 TXED+ (out), 40 TXED- (out), 41 TXEC+ (out), 42 TXEC- (out), 43 TXEB+ (out), 44 TXEB- (out), 45 TXEA+ (out), 46 TXEA- (out), 110 TXEE0 (in), 111 TXEE1 (in), 112 TXEE2 (in), 113 TXEE3 (in), 114 TXEE4 (in), 115 TXEE5 (in), 116 TXEE6 (in), 119 TXED0 (in), 120 TXED1 (in), 121 TXED2 (in), 122 TXED3 (in), 123 TXED4 (in), 124 TXED5 (in), 125 TXED6 (in), 126 TXEC0 (in), 127 TXEC1 (in), 128 TXEC2 (in)
part B pins: 51 TXOE+ (out), 52 TXOE- (out), 53 TXOD+ (out), 54 TXOD- (out), 55 TXOC+ (out), 56 TXOC- (out), 57 TXOB+ (out), 58 TXOB- (out), 59 TXOA+ (out), 60 TXOA- (out), 65 TXOE0 (in), 66 TXOE1 (in), 67 TXOE2 (in), 68 TXOE3 (in), 69 TXOE4 (in), 70 TXOE5 (in), 71 TXOE6 (in), 74 TXOD0 (in), 75 TXOD1 (in), 76 TXOD2 (in), 77 TXOD3 (in), 78 TXOD4 (in), 79 TXOD5 (in), 80 TXOD6 (in), 83 TXOC0 (in), 84 TXOC1 (in), 85 TXOC2 (in), 86 TXOC3 (in), 87 TXOC4 (in), 88 TXOC5 (in), 89 TXOC6 (in), 92 TXOB0 (in), 93 TXOB1 (in), 94 TXOB2 (in), 95 TXOB3 (in), 96 TXOB4 (in), 97 TXOB5 (in), 98 TXOB6 (in), 99 TXOA0 (in), 100 TXOA1 (in), 101 TXOA2 (in), 102 TXOA3 (in), 103 TXOA4 (in), 104 TXOA5 (in), 105 TXOA6 (in)
part C pins: 27 TCLKIN (in), 30 PWDNB (in), 31 S2CLK (in), 32 S2DAT (io), 33 RFB (in), 34 MODE0 (in), 47 TCLKOUT+ (out), 48 TCLKOUT- (out), 63 MODE1 (in), 64 RESRVD (in)
part D pins: 12 VDDE1 (power), 13 VSSE1 (power), 21 VDDP1 (power), 22 VSSP1 (power), 23 VSSP0 (power), 24 VDDP0 (power), 25 VDDT0 (power), 26 VSST0 (power), 28 VDDI (power), 29 VSSI (power), 35 VDDL (power), 36 VSSL (power), 49 VDDL (power), 50 VSSL (power), 61 VDDL (power), 62 VSSL (power), 72 VDDO0 (power), 73 VSSO0 (power), 81 VDDT1 (power), 82 VSST1 (power), 90 VDDO1 (power), 91 VSSO1 (power), 106 VDDT2 (power), 107 VDDT3 (power), 108 VSST2 (power), 109 VSST3 (power), 117 VDDE0 (power), 118 VSSE0 (power)

## DS90C3202VS
designator U?
3.3V 8 MHz to 135 MHz Dual FPD-Link Receiver; PartNumber: DS90C3202VS; Manufacturer: National Semiconductor; CompType: Interface IC; PackageTopMarking: NSUZXYYTT*DS90C3202VS; Published: 4-Dec-2008; DatasheetVersion: Sep-2006; PackageVersion: revA, Nov-2001; PackageReference: VJX128A; Publisher: Altium Limited; PackageDescription: TQFP, 14 x 14 x 1.0mm, 128 Lead, 0.4mm Pitch; RoHS: Y; PinCount: 128; DigiKeyPartNumber: DS90C3202VS-ND; ComponentLink1Description: DS90C3202 Datasheet; ComponentLink1URL: http://www.national.com/ds/DS/DS90C3202.pdf; ComponentLink2Description: DS90C3202 Web Page; ComponentLink2URL: http://www.national.com/pf/DS/DS90C3202.html; ComponentLink3Description: VJX128A Package Page; ComponentLink3URL: http://www.national.com/packaging/folders/vjx128a.html
footprint VJX128A_N (Thin QFP, 128-Leads, Body 14x14mm, Pitch 0.4mm, IPC Medium Density)
footprint VJX128A_L (Thin QFP, 128-Leads, Body 14x14mm, Pitch 0.4mm, IPC High Density)
footprint VJX128A_M (Thin QFP, 128-Leads, Body 14x14mm, Pitch 0.4mm, IPC Low Density)
part A pins: 8 RXEE0 (out), 9 RXEE1 (out), 10 RXEE2 (out), 11 RXEE3 (out), 12 RXEE4 (out), 13 RXEE5 (out), 14 RXEE6 (out), 17 RXED0 (out), 18 RXED1 (out), 19 RXED2 (out), 20 RXED3 (out), 21 RXED4 (out), 22 RXED5 (out), 23 RXED6 (out), 26 RXEC0 (out), 27 RXEC1 (out), 28 RXEC2 (out), 29 RXEC3 (out), 30 RXEC4 (out), 31 RXEC5 (out), 34 RXEC6 (out), 35 RXEB0 (out), 36 RXEB1 (out), 37 RXEB2 (out), 38 RXEB3 (out), 39 RXEB4 (out), 40 RXEB5 (out), 41 RXEB6 (out), 47 RXEA0 (out), 48 RXEA1 (out), 49 RXEA2 (out), 50 RXEA3 (out), 51 RXEA4 (out), 52 RXEA5 (out), 53 RXEA6 (out), 117 RXEA- (in), 118 RXEA+ (in), 119 RXEB- (in), 120 RXEB+ (in), 121 RXEC- (in), 122 RXEC+ (in), 123 RXED- (in), 124 RXED+ (in), 125 RXEE- (in), 126 RXEE+ (in)
part B pins: 56 RXOE0 (out), 57 RXOE1 (out), 58 RXOE2 (out), 59 RXOE3 (out), 60 RXOE4 (out), 61 RXOE5 (out), 62 RXOE6 (out), 63 RXOD0 (out), 66 RXOD1 (out), 67 RXOD2 (out), 68 RXOD3 (out), 69 RXOD4 (out), 70 RXOD5 (out), 71 RXOD6 (out), 72 RXOC0 (out), 73 RXOC1 (out), 74 RXOC2 (out), 75 RXOC3 (out), 76 RXOC4 (out), 77 RXOC5 (out), 78 RXOC6 (out), 79 RXOB0 (out), 80 RXOB1 (out), 81 RXOB2 (out), 82 RXOB3 (out), 83 RXOB4 (out), 84 RXOB5 (out), 85 RXOB6 (out), 88 RXOA0 (out), 89 RXOA1 (out), 90 RXOA2 (out), 91 RXOA3 (out), 92 RXOA4 (out), 93 RXOA5 (out), 94 RXOA6 (out), 101 RXOA- (in), 102 RXOA+ (in), 103 RXOB- (in), 104 RXOB+ (in), 105 RXOC- (in), 106 RXOC+ (in), 107 RXOD- (in), 108 RXOD+ (in), 109 RXOE- (in), 110 RXOE+ (in)
part C pins: 1 S2DAT (io), 2 S2CLK (in), 7 PWDNB (in), 44 RCLKOUT (out), 97 RESRVD (in), 98 MODE1 (in), 115 RCLKIN- (in), 116 RCLKIN+ (in), 127 MODE0 (in), 128 RFB (in)
part D pins: 3 VDDP1 (power), 4 VSSP1 (power), 5 VSSP0 (power), 6 VDDP0 (power), 15 VSS0 (power), 16 VDD0 (power), 24 VSSR0 (power), 25 VDDR0 (power), 32 VSS1 (power), 33 VDD1 (power), 42 VSSR1 (power), 43 VDDR1 (power), 45 VSS2 (power), 46 VDD2 (power), 54 VSS3 (power), 55 VDD3 (power), 64 VSS4 (power), 65 VDD4 (power), 86 VDDR2 (power), 87 VSSR2 (power), 95 VDD5 (power), 96 VSS5 (power), 99 VSSL (power), 100 VDDL (power), 111 VSSL (power), 112 VSSL (power), 113 VDDL (power), 114 VDDL (power)

## DS90CF363BMT
designator U?
+3.3V Programmable LVDS Transmitter 18-Bit Flat Panel Display (FPD) Link - 65MHz; PartNumber: DS90CF363BMT; Manufacturer: National Semiconductor; CompType: Interface IC; PackageTopMarking: NSUZXYTT*DS90CF363BMT; Published: 4-Dec-2008; DatasheetVersion: Oct-2006; PackageVersion: revE, Apr-2003; PackageReference: MTD48; Publisher: Altium Limited; PackageDescription: Molded TSSOP, Jedec, 12.5 x 6.1 x 0.9mm Body, 48 Lead, 0.50mm Pitch; RoHS: O; PinCount: 48; Code_JEDEC: MO-153-ED; ComponentLink1Description: DS90CF363B Datasheet; ComponentLink1URL: http://www.national.com/ds/DS/DS90CF363B.pdf; ComponentLink2Description: DS90CF363B Web Page; ComponentLink2URL: http://www.national.com/pf/DS/DS90CF363B.html; ComponentLink3Description: MTD48 Package Page; ComponentLink3URL: http://www.national.com/packaging/folders/mtd48.html
footprint MTD48_N (TSSOP, 48-Leads, Body 12.5x6.1mm, Pitch 0.5mm, IPC Medium Density)
footprint MTD48_L (TSSOP, 48-Leads, Body 12.5x6.1mm, Pitch 0.5mm, IPC High Density)
footprint MTD48_M (TSSOP, 48-Leads, Body 12.5x6.1mm, Pitch 0.5mm, IPC Low Density)
pins: 1 TxIN4 (in), 2 VCC (power), 3 TxIN5 (in), 4 TxIN6 (in), 5 GND (power), 6 TxIN7 (in), 7 TxIN8 (in), 8 VCC (power), 9 TxIN9 (in), 10 TxIN10 (in), 11 GND (power), 12 TxIN11 (in), 13 TxIN12 (in), 14 VCC (power), 15 TxIN13 (in), 16 TxIN14 (in), 17 GND (power), 18 TxIN15 (in), 19 TxIN16 (in), 20 TxIN17 (in), 21 VCC (power), 22 TxIN18 (in), 23 TxIN19 (in), 24 GND (power), 25 TxIN20 (in), 26 TxCLK IN (in), 27 ~{PWR DOWN} (in), 28 PLL GND (power), 29 PLL VCC (power), 30 PLL GND (power), 31 LVDS GND (power), 32 TxCLK OUT+ (out), 33 TxCLK OUT- (out), 34 TxOUT2+ (out), 35 TxOUT2- (out), 36 LVDS GND (power), 37 LVDS VCC (power), 38 TxOUT1+ (out), 39 TxOUT1- (out), 40 TxOUT0+ (out), 41 TxOUT0- (out), 42 LVDS GND (power), 43 NC, 44 TxIN0 (in), 45 TxIN1 (in), 46 GND (power), 47 TxIN2 (in), 48 TxIN3 (in)

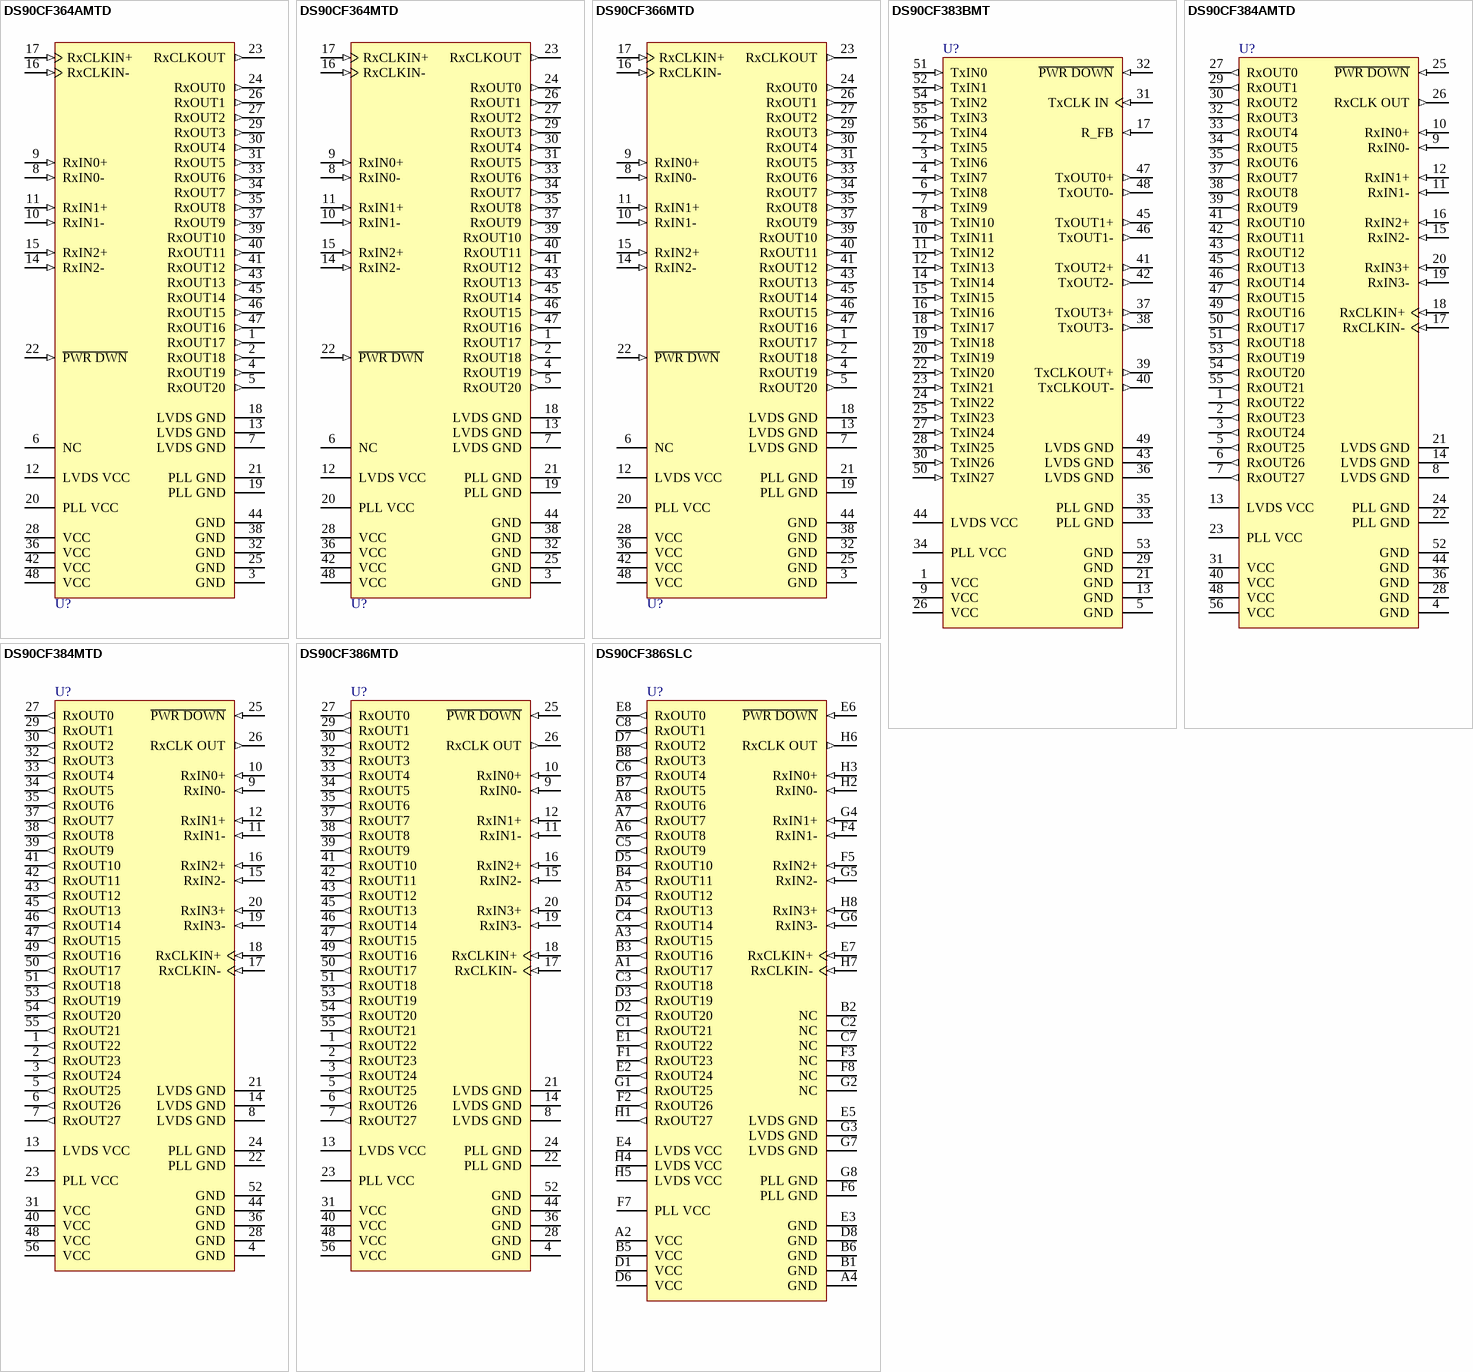
[diagram p14: symbols DS90CF364AMTD to DS90CF386SLC]

## DS90CF364AMTD
designator U?
+3.3V LVDS Receiver 18-Bit Flat Panel Display (FPD) Link - 65 MHz; PartNumber: DS90CF364AMTD; Manufacturer: National Semiconductor; CompType: Interface IC; PackageTopMarking: NS2ZXYTT*DS90CF364AMTD*BBBBB; Published: 4-Dec-2008; DatasheetVersion: Jul-2007; PackageVersion: revE, Apr-2003; PackageReference: MTD48; Publisher: Altium Limited; PackageDescription: Molded TSSOP, Jedec, 12.5 x 6.1 x 0.9mm Body, 48 Lead, 0.50mm Pitch; RoHS: O; PinCount: 48; DigiKeyPartNumber: DS90CF364AMTD-ND; Code_JEDEC: MO-153-ED; ComponentLink1Description: DS90CF364A Datasheet; ComponentLink1URL: http://www.national.com/ds/DS/DS90CF364A.pdf; ComponentLink2Description: DS90CF364A Web Page; ComponentLink2URL: http://www.national.com/pf/DS/DS90CF364A.html; ComponentLink3Description: MTD48 Package Page; ComponentLink3URL: http://www.national.com/packaging/folders/mtd48.html
footprint MTD48_N (TSSOP, 48-Leads, Body 12.5x6.1mm, Pitch 0.5mm, IPC Medium Density)
footprint MTD48_L (TSSOP, 48-Leads, Body 12.5x6.1mm, Pitch 0.5mm, IPC High Density)
footprint MTD48_M (TSSOP, 48-Leads, Body 12.5x6.1mm, Pitch 0.5mm, IPC Low Density)
pins: 1 RxOUT17 (out), 2 RxOUT18 (out), 3 GND (power), 4 RxOUT19 (out), 5 RxOUT20 (out), 6 NC, 7 LVDS GND (power), 8 RxIN0- (in), 9 RxIN0+ (in), 10 RxIN1- (in), 11 RxIN1+ (in), 12 LVDS VCC (power), 13 LVDS GND (power), 14 RxIN2- (in), 15 RxIN2+ (in), 16 RxCLKIN- (in), 17 RxCLKIN+ (in), 18 LVDS GND (power), 19 PLL GND (power), 20 PLL VCC (power), 21 PLL GND (power), 22 ~{PWR DWN} (in), 23 RxCLKOUT (out), 24 RxOUT0 (out), 25 GND (power), 26 RxOUT1 (out), 27 RxOUT2 (out), 28 VCC (power), 29 RxOUT3 (out), 30 RxOUT4 (out), 31 RxOUT5 (out), 32 GND (power), 33 RxOUT6 (out), 34 RxOUT7 (out), 35 RxOUT8 (out), 36 VCC (power), 37 RxOUT9 (out), 38 GND (power), 39 RxOUT10 (out), 40 RxOUT11 (out), 41 RxOUT12 (out), 42 VCC (power), 43 RxOUT13 (out), 44 GND (power), 45 RxOUT14 (out), 46 RxOUT15 (out), 47 RxOUT16 (out), 48 VCC (power)

## DS90CF364MTD
designator U?
+3.3V LVDS Receiver 18-Bit Flat Panel Display (FPD) Link - 65 MHz; PartNumber: DS90CF364MTD; Manufacturer: National Semiconductor; CompType: Interface IC; PackageTopMarking: NS2ZXYTT*DS90CF364MTD*BBBBB; Published: 4-Dec-2008; DatasheetVersion: Sep-1999; PackageVersion: revE, Apr-2003; PackageReference: MTD48; Publisher: Altium Limited; PackageDescription: Molded TSSOP, Jedec, 12.5 x 6.1 x 0.9mm Body, 48 Lead, 0.50mm Pitch; RoHS: O; PinCount: 48; DigiKeyPartNumber: DS90CF364MTD-ND; Code_JEDEC: MO-153-ED; ComponentLink1Description: DS90CF364 Datasheet; ComponentLink1URL: http://www.national.com/ds/DS/DS90CF364.pdf; ComponentLink2Description: DS90CF364 Web Page; ComponentLink2URL: http://www.national.com/pf/DS/DS90CF364.html; ComponentLink3Description: MTD48 Package Page; ComponentLink3URL: http://www.national.com/packaging/folders/mtd48.html
footprint MTD48_N (TSSOP, 48-Leads, Body 12.5x6.1mm, Pitch 0.5mm, IPC Medium Density)
footprint MTD48_L (TSSOP, 48-Leads, Body 12.5x6.1mm, Pitch 0.5mm, IPC High Density)
footprint MTD48_M (TSSOP, 48-Leads, Body 12.5x6.1mm, Pitch 0.5mm, IPC Low Density)
pins: 1 RxOUT17 (out), 2 RxOUT18 (out), 3 GND (power), 4 RxOUT19 (out), 5 RxOUT20 (out), 6 NC, 7 LVDS GND (power), 8 RxIN0- (in), 9 RxIN0+ (in), 10 RxIN1- (in), 11 RxIN1+ (in), 12 LVDS VCC (power), 13 LVDS GND (power), 14 RxIN2- (in), 15 RxIN2+ (in), 16 RxCLKIN- (in), 17 RxCLKIN+ (in), 18 LVDS GND (power), 19 PLL GND (power), 20 PLL VCC (power), 21 PLL GND (power), 22 ~{PWR DWN} (in), 23 RxCLKOUT (out), 24 RxOUT0 (out), 25 GND (power), 26 RxOUT1 (out), 27 RxOUT2 (out), 28 VCC (power), 29 RxOUT3 (out), 30 RxOUT4 (out), 31 RxOUT5 (out), 32 GND (power), 33 RxOUT6 (out), 34 RxOUT7 (out), 35 RxOUT8 (out), 36 VCC (power), 37 RxOUT9 (out), 38 GND (power), 39 RxOUT10 (out), 40 RxOUT11 (out), 41 RxOUT12 (out), 42 VCC (power), 43 RxOUT13 (out), 44 GND (power), 45 RxOUT14 (out), 46 RxOUT15 (out), 47 RxOUT16 (out), 48 VCC (power)

## DS90CF366MTD
designator U?
+3.3V LVDS Receiver 18-Bit Flat Panel Display (FPD) Link - 85 MHz; PartNumber: DS90CF366MTD; Manufacturer: National Semiconductor; CompType: Interface IC; PackageTopMarking: NSUZXYTT*DS90CF366MTD*BBBBB; Published: 4-Dec-2008; DatasheetVersion: Feb-2006; PackageVersion: revE, Apr-2003; PackageReference: MTD48; Publisher: Altium Limited; PackageDescription: Molded TSSOP, Jedec, 12.5 x 6.1 x 0.9mm Body, 48 Lead, 0.50mm Pitch; RoHS: Y; PinCount: 48; DigiKeyPartNumber: DS90CF366MTD-ND; Code_JEDEC: MO-153-ED; ComponentLink1Description: DS90CF366 Datasheet; ComponentLink1URL: http://www.national.com/ds/DS/DS90CF366.pdf; ComponentLink2Description: DS90CF366 Web Page; ComponentLink2URL: http://www.national.com/pf/DS/DS90CF366.html; ComponentLink3Description: MTD48 Package Page; ComponentLink3URL: http://www.national.com/packaging/folders/mtd48.html
footprint MTD48_N (TSSOP, 48-Leads, Body 12.5x6.1mm, Pitch 0.5mm, IPC Medium Density)
footprint MTD48_L (TSSOP, 48-Leads, Body 12.5x6.1mm, Pitch 0.5mm, IPC High Density)
footprint MTD48_M (TSSOP, 48-Leads, Body 12.5x6.1mm, Pitch 0.5mm, IPC Low Density)
pins: 1 RxOUT17 (out), 2 RxOUT18 (out), 3 GND (power), 4 RxOUT19 (out), 5 RxOUT20 (out), 6 NC, 7 LVDS GND (power), 8 RxIN0- (in), 9 RxIN0+ (in), 10 RxIN1- (in), 11 RxIN1+ (in), 12 LVDS VCC (power), 13 LVDS GND (power), 14 RxIN2- (in), 15 RxIN2+ (in), 16 RxCLKIN- (in), 17 RxCLKIN+ (in), 18 LVDS GND (power), 19 PLL GND (power), 20 PLL VCC (power), 21 PLL GND (power), 22 ~{PWR DWN} (in), 23 RxCLKOUT (out), 24 RxOUT0 (out), 25 GND (power), 26 RxOUT1 (out), 27 RxOUT2 (out), 28 VCC (power), 29 RxOUT3 (out), 30 RxOUT4 (out), 31 RxOUT5 (out), 32 GND (power), 33 RxOUT6 (out), 34 RxOUT7 (out), 35 RxOUT8 (out), 36 VCC (power), 37 RxOUT9 (out), 38 GND (power), 39 RxOUT10 (out), 40 RxOUT11 (out), 41 RxOUT12 (out), 42 VCC (power), 43 RxOUT13 (out), 44 GND (power), 45 RxOUT14 (out), 46 RxOUT15 (out), 47 RxOUT16 (out), 48 VCC (power)

## DS90CF383BMT
designator U?
+3.3V LVDS Transmitter 24-Bit Flat Panel Display (FPD) Link - 65 MHz; PartNumber: DS90CF383BMT; Manufacturer: National Semiconductor; CompType: Interface IC; PackageTopMarking: NSUZXYTT*DS90CF383BMT; Published: 4-Dec-2008; DatasheetVersion: Oct-2006; PackageVersion: revD, Apr-2003; PackageReference: MTD56; Publisher: Altium Limited; PackageDescription: Molded TSSOP, Jedec, 14 x 6.1 x 0.9mm Body, 56 Lead, 0.50mm Pitch; RoHS: Y; PinCount: 56; Code_IPC: TSSOP50P810-56; ComponentLink1Description: DS90CF383B Datasheet; ComponentLink1URL: http://www.national.com/ds/DS/DS90C383B.pdf; ComponentLink2Description: DS90CF383B Web Page; ComponentLink2URL: http://www.national.com/pf/DS/DS90CF383B.html; ComponentLink3Description: MTD56 Package Page; ComponentLink3URL: http://www.national.com/packaging/folders/mtd56.html
footprint MTD56_N (TSSOP, 56-Leads, Body 14x6.1mm, Pitch 0.5mm, IPC Medium Density)
footprint MTD56_L (TSSOP, 56-Leads, Body 14x6.1mm, Pitch 0.5mm, IPC High Density)
footprint MTD56_M (TSSOP, 56-Leads, Body 14x6.1mm, Pitch 0.5mm, IPC Low Density)
pins: 1 VCC (power), 2 TxIN5 (in), 3 TxIN6 (in), 4 TxIN7 (in), 5 GND (power), 6 TxIN8 (in), 7 TxIN9 (in), 8 TxIN10 (in), 9 VCC (power), 10 TxIN11 (in), 11 TxIN12 (in), 12 TxIN13 (in), 13 GND (power), 14 TxIN14 (in), 15 TxIN15 (in), 16 TxIN16 (in), 17 R_FB (in), 18 TxIN17 (in), 19 TxIN18 (in), 20 TxIN19 (in), 21 GND (power), 22 TxIN20 (in), 23 TxIN21 (in), 24 TxIN22 (in), 25 TxIN23 (in), 26 VCC (power), 27 TxIN24 (in), 28 TxIN25 (in), 29 GND (power), 30 TxIN26 (in), 31 TxCLK IN (in), 32 ~{PWR DOWN} (in), 33 PLL GND (power), 34 PLL VCC (power), 35 PLL GND (power), 36 LVDS GND (power), 37 TxOUT3+ (out), 38 TxOUT3- (out), 39 TxCLKOUT+ (out), 40 TxCLKOUT- (out), 41 TxOUT2+ (out), 42 TxOUT2- (out), 43 LVDS GND (power), 44 LVDS VCC (power), 45 TxOUT1+ (out), 46 TxOUT1- (out), 47 TxOUT0+ (out), 48 TxOUT0- (out), 49 LVDS GND (power), 50 TxIN27 (in), 51 TxIN0 (in), 52 TxIN1 (in), 53 GND (power), 54 TxIN2 (in), 55 TxIN3 (in), 56 TxIN4 (in)